# EAGLE library part C3088MODULE (library Tugas-Akhir-Sistem-Mikroprossesor)
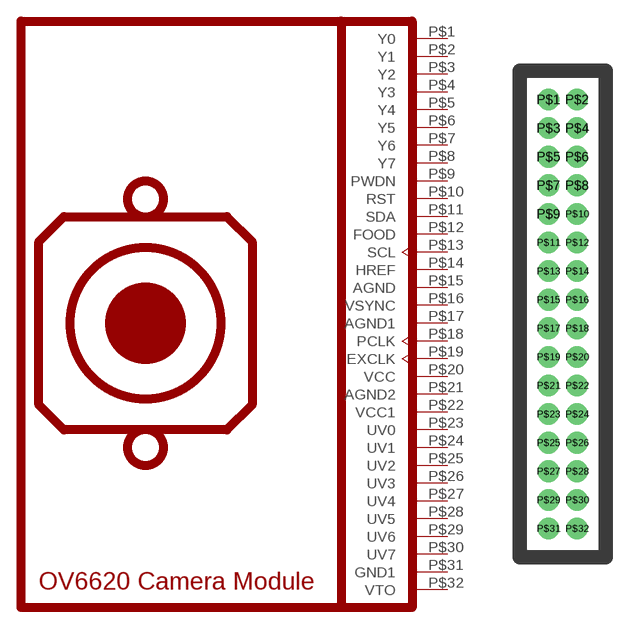
[diagram p1: symbol with the pads of C3088MODULE; footprint C3088MODULE]

Designator prefix -

## C3088MODULE  [C3088MODULE]
P$1  Y0
P$2  Y1
P$3  Y2
P$4  Y3
P$5  Y4
P$6  Y5
P$7  Y6
P$8  Y7
P$9  PWDN
P$10  RST
P$11  SDA
P$12  FOOD
P$13  SCL
P$14  HREF
P$15  AGND  pwr
P$16  VSYNC
P$17  AGND1
P$18  PCLK
P$19  EXCLK
P$20  VCC
P$21  AGND2  pwr
P$22  VCC1  pwr
P$23  UV0
P$24  UV1
P$25  UV2
P$26  UV3
P$27  UV4
P$28  UV5
P$29  UV6
P$30  UV7
P$31  GND1  pwr
P$32  VTO

## Footprint C3088MODULE (pad centres in mm)
drill 1 pad 1.93 round: P$1 -1.27,19.05; P$2 1.27,19.05; P$3 -1.27,16.51; P$4 1.27,16.51; P$5 -1.27,13.97; P$6 1.27,13.97; P$7 -1.27,11.43; P$8 1.27,11.43; P$9 -1.27,8.89; P$10 1.27,8.89; P$11 -1.27,6.35; P$12 1.27,6.35; P$13 -1.27,3.81; P$14 1.27,3.81; P$15 -1.27,1.27; P$16 1.27,1.27; P$17 -1.27,-1.27; P$18 1.27,-1.27; P$19 -1.27,-3.81; P$20 1.27,-3.81; P$21 -1.27,-6.35; P$22 1.27,-6.35; P$23 -1.27,-8.89; P$24 1.27,-8.89; P$25 -1.27,-11.43; P$26 1.27,-11.43; P$27 -1.27,-13.97; P$28 1.27,-13.97; P$29 -1.27,-16.51; P$30 1.27,-16.51; P$31 -1.27,-19.05; P$32 1.27,-19.05